# EAGLE library part IP4234CZ6 (library philips-priv)
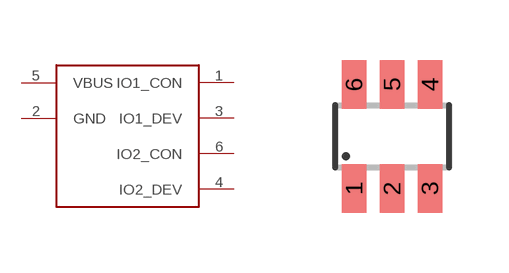
[diagram p0: symbol with the pads of TSOT23-6; footprint TSOT23-6]

Designator prefix -

## IP4234CZ6SOT457  [TSOT23-6]
1  IO1_CON  in
2  GND  pwr
3  IO1_DEV  out
4  IO2_DEV  out
5  VBUS  pwr
6  IO2_CON  in

## Footprint TSOT23-6 (pad centres in mm)
S6 Package 6-Lead Plastic TSOT-23 Source: http://cds.linear.com/docs/Datasheet/623012fb.pdf
smd 0.62 x 1.22: 1 -0.95,-1.3; 2 0,-1.3; 3 0.95,-1.3; 4 0.95,1.3; 5 0,1.3; 6 -0.95,1.3